# Altium schematic symbol library SOUND_SPEAKERS.SchLib: 1 symbol
Pins are listed as number, name and electrical type; pins without a type are passive.

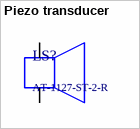
[diagram p0: symbol Piezo transducer]

## Piezo transducer
designator LS?, comment AT-1127-ST-2-R
Piezo transducer; Name: AT-1127-ST-2-R; BOMString: AT-1127-ST-2-R
footprint EMX-7T05P
footprint AT-1127-ST-2-R
footprint PKM13EPYH4000-A0
pins: 1 (power), 2